# Altium schematic symbol library B82477P4334M000.SchLib: 2 symbols
Pins are listed as number, name and electrical type; pins without a type are passive.

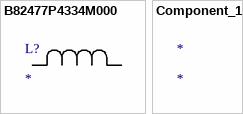
[diagram p0: symbols B82477P4334M000 to Component_1]

## B82477P4334M000
designator L?
No Description Available; Mfr_Name: TDK
footprint IND_EPCOS_B82477P4_EPC
pins: 1, 2

## Component_1
designator *